# Altium footprint library 2015PCB新.PcbLib: 21 footprints (part 1 of 2)
Each footprint in its own frame and in the unit in brackets; x right, y up, seen from the top. Pads: shape width x height; smd on the part's side, far side on the other; paste and mask are expansions set on the pad; w line width, h text height; cw(c..) or ccw(c..) is an arc to the next point about the centre after c.
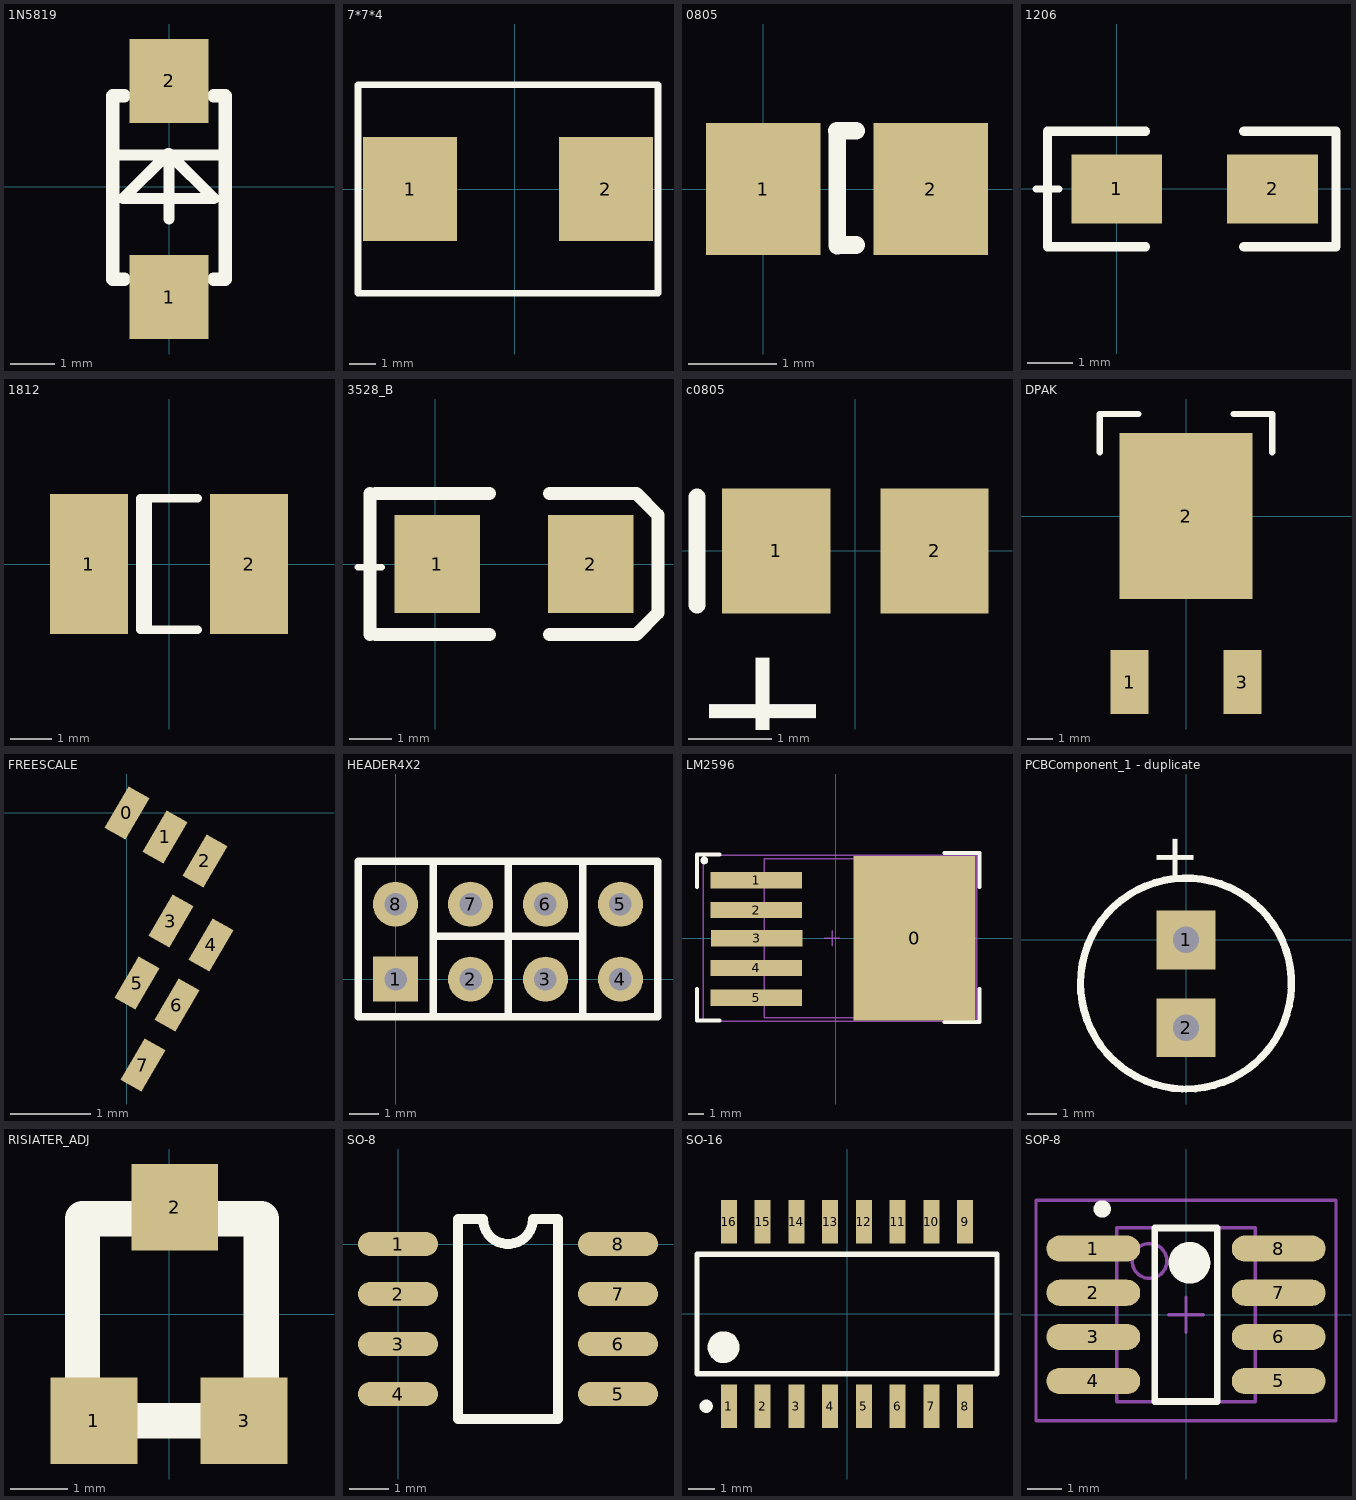
[diagram p0: the footprints below, top view; thin cyan lines are the x and y axes]

## 1N5819 [mm]
pads (2):
  rect 1.8x1.9 smd: 1(0,-2.5) 2(0,2.4)
Top Overlay:
  lines w0.254: -1.27,0.724 1.27,0.724 ; 0,-0.724 0,0.749 ; 0,0.749 1.016,-0.267 -1.041,-0.267 -0.025,0.749 0,0.749
  lines w0.305: -1.016,-2.091 -1.27,-2.091 -1.27,2.065 -1.016,2.065 ; 1.016,-2.091 1.27,-2.091 1.27,2.065 1.016,2.065

## 7*7*4 [mm]
pads (2):
  rect 3.6x4 smd: 1(-4,0) 2(3.5,0)
Top Overlay:
  lines w0.254: -6,-4 5.5,-4 5.5,4 -6,4 -6,-4

## 0805 [mm]
pads (2):
  rect 1.3x1.5 smd: 1(0,0) 2(1.9,0)
Top Overlay:
  lines w0.2: 0.838,-0.64 0.838,0.66
  lines w0.203: 0.838,0.66 1.052,0.66 ; 0.843,-0.635 1.052,-0.635

## 1206 [mil]
pads (2):
  rect 78.74x60 smd: 1(0,0) 2(135,0)
Top Overlay:
  lines w6: -70,0 -50,0
  lines w8: 25,-50 -60,-50 -60,50 25,50 ; 110,-50 190,-50 190,50 110,50

## 1812 [mm] "Chip Capacitor; Body 4.5 x 3.2 mm (LxW typ)"
height 1.1
pads (2):
  rect 1.9x3.4 smd: 1(-1.95,0) 2(1.95,0)
Top Overlay:
  lines w0.2: -0.51,-1.6 -0.51,1.6 ; 0.7,-1.6 -0.7,-1.6 -0.7,1.6 0.7,1.6

## 3528_B [mil]
pads (2):
  rect 78.74x90 smd: 1(2,0) 2(143,0)
Top Overlay:
  lines w6: -71,-3 -49,-3
  lines w12: -60,-65 -60,65 ; -55,-65 50,-65 ; -55,65 50,65 ; 105,-65 185,-65 205,-45 205,45 185,65 105,65

## c0805 [mm] "Chip Capacitor; Body 2.0 x 1.2 mm (LxW typ)"
height 1.1
pads (2):
  rect 1.3x1.5 smd: 1(-0.95,0) 2(0.95,0)
Top Overlay:
  lines w0.2: -1.9,-0.65 -1.9,0.65
  text "+" at -1.753,-1.067 h1.5

## DPAK [mil]
height 68.9
pads (3):
  rect 59.06x100 smd: 1(-88.5,-260) 3(88.5,-260)
  rect 208.66x260 smd: 2(0,0)
Top Overlay:
  lines w10: -135,100 -135,160 -75,160 ; 75,160 135,160 135,100

## FREESCALE [mm]
pads (8):
  rect 0.6x0.3 smd rot 60: 0(0,0) 1(0.475,-0.3) 2(0.975,-0.6) 3(0.55,-1.35) 4(1.05,-1.65) 5(0.125,-2.125) 6(0.625,-2.4) 7(0.2,-3.15)

## HEADER4X2 [mil]
pads (8):
  rect 60x60 hole 30: 1(0,0)
  round 60 hole 30: 2(100,0) 3(200,0) 4(300,0) 5(300,100) 6(200,100) 7(100,100) 8(0,100)
Top Overlay:
  lines w10: -50,25 -50,157.48 350,157.48 350,-50.39 -50,-50.39 -50,75 ; 50,-50.39 50,157.48 ; 50,57 247,57 ; 150,-50.39 150,157.48 ; 250,-50.39 250,157.48

## LM2596 [mm]
pads (6):
  rect 8x10.8 smd: 0(5.168,0)
  rect 6x1.07 smd: 1(-5.2,3.792) 2(-5.2,1.846) 3(-5.168,0) 4(-5.2,-1.946) 5(-5.2,-3.892)
Top Overlay:
  circle w0.25: c-8.625,5.1 r0.125
  lines w0.254: -9.1,-3.327 -9.1,-5.4 -7.609,-5.4 ; -9.1,3.353 -9.1,5.5 -7.609,5.5 ; 7.123,-5.5 9.409,-5.5 9.409,-3.327 ; 7.123,5.6 9.409,5.6 9.409,3.353
Mechanical 13:
  lines w0.1: -4.688,-5.205 4.202,-5.205 4.202,5.205 -4.688,5.205 -4.688,-5.205
Mechanical 15:
  lines w0.1: -0.743,0 0.257,0 ; -0.243,-0.5 -0.243,0.5 ; -8.7,-5.455 9.232,-5.455 9.232,5.455 -8.7,5.455 -8.7,-5.455
3D body: height 4.65, standoff 0.1, extent -4.688,-5.205 4.202,5.205

## PCBComponent_1 - duplicate [mil]
pads (2):
  rect 80x80 hole 35.42: 1(0,0) 2(0,-119.37)
Top Overlay:
  lines w10: -4.93,-202.46 cw(c0,-59.37) 0,-202.55
  text "+" at -40,145.63 h59.06

## RISIATER_ADJ [mm]
pads (3):
  rect 1.5x1.5 smd: 1(-1.3,-1.85) 2(0.1,1.85) 3(1.3,-1.85)
Top Overlay:
  lines w0.61: -1.5,-1.85 -1.5,1.65 1.6,1.65 1.6,-1.85 -1.5,-1.85

## SO-8 [mil]
pads (8):
  oval 80x24 smd: 1(0,0) 2(0,-50) 3(0,-100) 4(0,-150) 5(220,-150) 6(220,-100) 7(220,-50) 8(220,0)
Top Overlay:
  lines w10: 60,-175 60,25 85,25 ccw(c110,25) 135,25 160,25 160,-175 60,-175

## SO-16 [mm] "Small Outline; 16 Leads; Body Width 5.6 mm; Pitch 1.27 mm"
height 2.2
pads (16):
  rect 0.6x1.65 smd: 1(-4.445,-3.475) 2(-3.175,-3.475) 3(-1.905,-3.475) 4(-0.635,-3.475) 5(0.635,-3.475) 6(1.905,-3.475) 7(3.175,-3.475) 8(4.445,-3.475) 9(4.445,3.475) 10(3.175,3.475) 11(1.905,3.475) 12(0.635,3.475) 13(-0.635,3.475) 14(-1.905,3.475) 15(-3.175,3.475) 16(-4.445,3.475)
Top Overlay:
  circle w0.6: c-4.65,-1.25 r0.3
  circle w0.25: c-5.305,-3.475 r0.125
  lines w0.2: -5.65,-2.25 5.65,-2.25 5.65,2.25 -5.65,2.25 -5.65,-0.635 -5.65,-2.25

## SOP-8 [mm] "SOIC, 8-Leads, Body 5.0x4.0mm (max), Pitch 1.27mm, IPC Medium Density"
height 1.75
pads (8):
  oval 2.7x0.75 smd: 1(-2.667,1.905) 2(-2.667,0.635) 3(-2.667,-0.635) 4(-2.667,-1.905) 5(2.667,-1.905) 6(2.667,-0.635) 7(2.667,0.635) 8(2.667,1.905)
Top Overlay:
  circle w0.25: c-2.411,3.048 r0.125
  circle w0.6: c0.1,1.5 r0.3
  lines w0.2: -0.9,-2.5 -0.9,2.5 0.9,2.5 0.9,-2.5 -0.9,-2.5
Mechanical 13:
  circle w0.1: c-1.05,1.55 r0.5
  lines w0.1: -2,-2.5 -2,2.5 2,2.5 2,-2.5 -2,-2.5
Mechanical 15:
  lines w0.1: -0.5,0 0.5,0 ; 0,-0.5 0,0.5 ; -4.318,-3.048 -4.318,3.302 4.318,3.302 4.318,-3.048 -4.318,-3.048
3D body: height 1.75, standoff 0.25, extent -2,-2.5 2,2.5